# Altium footprint library G5LE1DC3.PcbLib: 1 footprints
Each footprint in its own frame and in the unit in brackets; x right, y up, seen from the top. Pads: shape width x height; smd on the part's side, far side on the other; paste and mask are expansions set on the pad; w line width, h text height; cw(c..) or ccw(c..) is an arc to the next point about the centre after c.
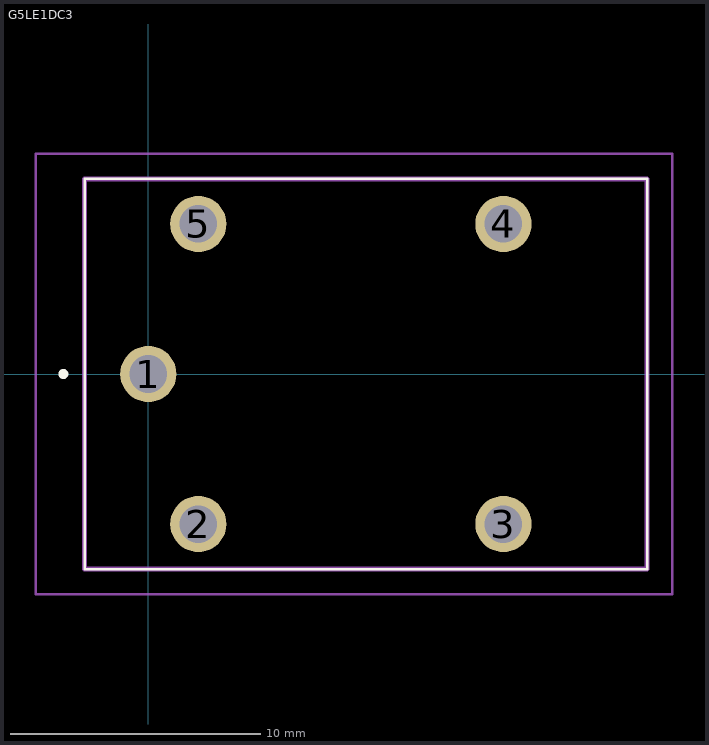
[diagram p0: the footprint, top view; thin cyan lines are the x and y axes]

## G5LE1DC3 [mm]
pads (5):
  round 2.25 hole 1.5: 1(0,0) 2(2,-6) 3(14.2,-6) 4(14.2,6) 5(2,6)
Top Overlay:
  lines w0.1: -2.55,-7.8 19.95,-7.8 19.95,7.8 -2.55,7.8 -2.55,-7.8
  lines w0.2: -3.5,0 -3.5,0 ; -3.5,0 ccw(c-3.4,0) -3.3,0 ; -3.5,0 cw(c-3.4,0) -3.3,0 ; -3.3,0 -3.3,0
Mechanical 15:
  lines w0.2: -2.55,-7.8 19.95,-7.8 19.95,7.8 -2.55,7.8 -2.55,-7.8
Mechanical 20:
  lines w0.1: -4.5,-8.8 20.95,-8.8 20.95,8.8 -4.5,8.8 -4.5,-8.8